# Altium schematic symbol library UCC27517_DBV_5.SchLib: 1 symbol
Pins are listed as number, name and electrical type; pins without a type are passive.

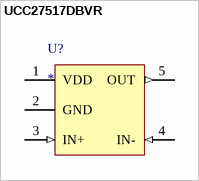
[diagram p0: symbol UCC27517DBVR]

## UCC27517DBVR
designator U?
Single-Channel, High-Speed, Low-Side Gate Driver (With 4-A Peak Source and 4-A Peak Sink); PartNumber: UCC27519DBVR; Alternate_PartNumber: UCC27519DBVT; Manufacturer: Texas Instruments; CompType: IC; PIN_COUNT: 5; PackageReference: DBV0005A; MountType: SMT; RoHS: Y; RefDes: RefDes; Type: DEV; Value: Value
footprint DBV0005A_N
pins: 1 VDD (power), 2 GND (power), 3 IN+ (in), 4 IN- (in), 5 OUT (out)